# Altium footprint library PcbLibInduction.PcbLib: 27 footprints (part 2 of 2)
Each footprint in its own frame and in the unit in brackets; x right, y up, seen from the top. Pads: shape width x height; smd on the part's side, far side on the other; paste and mask are expansions set on the pad; w line width, h text height; cw(c..) or ccw(c..) is an arc to the next point about the centre after c.
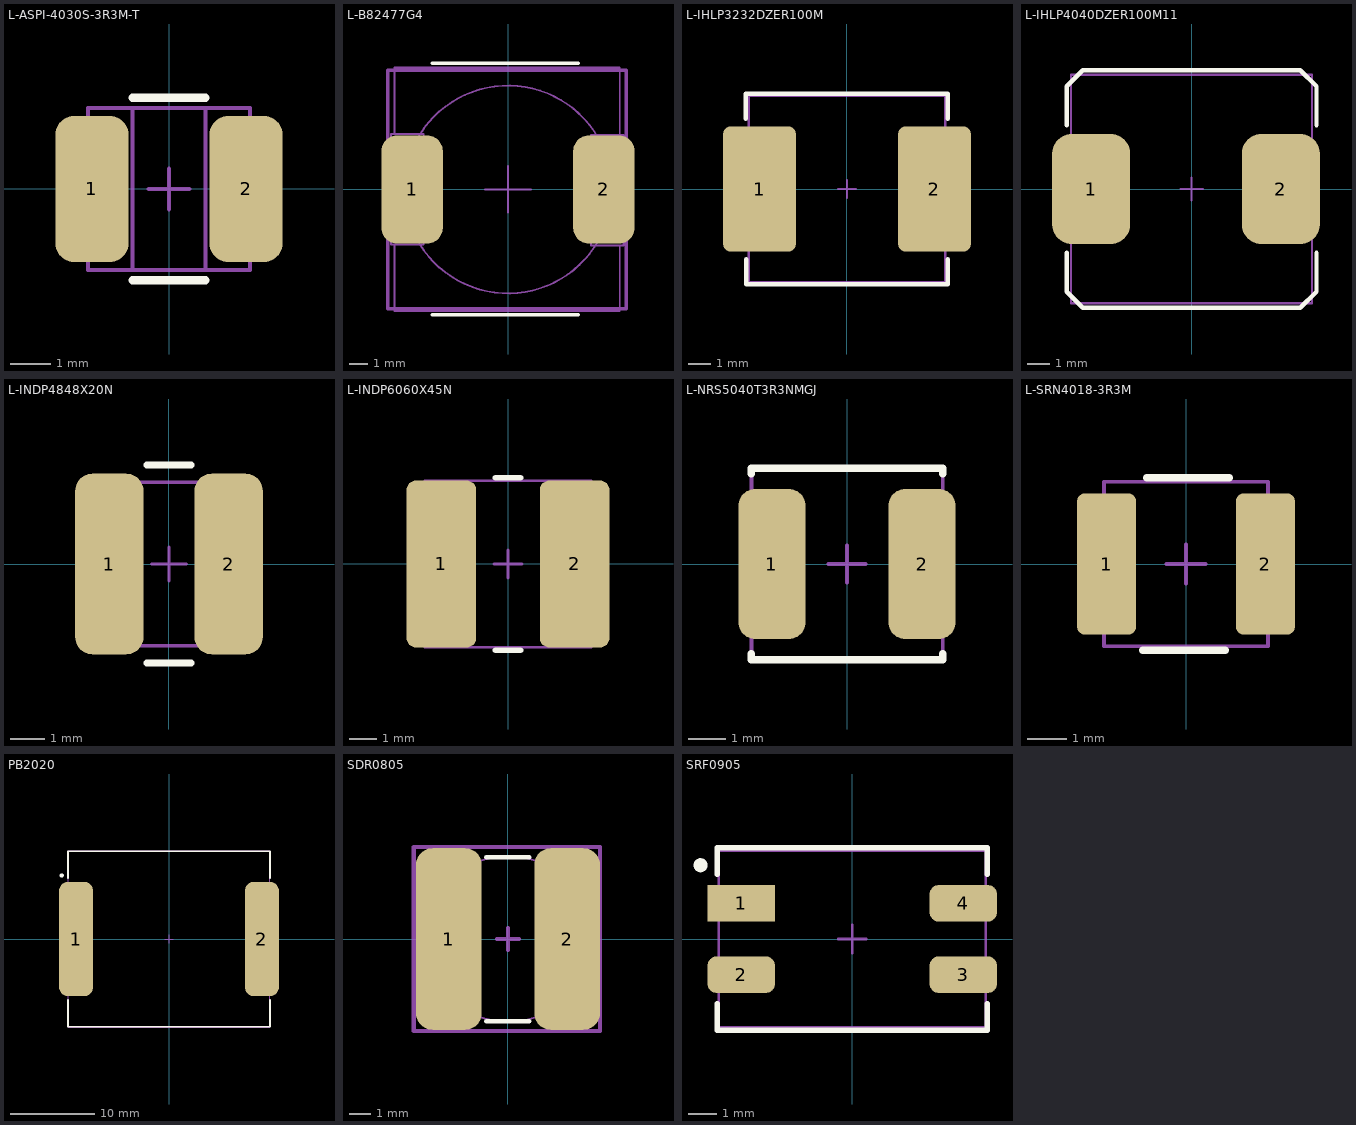
[diagram p1: the footprints below, top view; thin cyan lines are the x and y axes]

## L-ASPI-4030S-3R3M-T [mm]
height 3
pads (2):
  rrect50% 1.8x3.6 smd: 1(-1.9,0) 2(1.9,0)
Top Overlay:
  lines w0.2: -0.9,-2.25 0.9,-2.25 ; -0.9,2.25 0.9,2.25
TopAssy:
  lines w0.1: -0.9,-2 -0.9,2 ; 0.9,-2 0.9,2 ; -2,-2 2,-2 2,2 -2,2 -2,-2
Inside:
  lines w0.1: -0.5,0 0.5,0 ; 0,-0.5 0,0.5
3D body "L-ASPI-4030S-3RM3-T.STEP": height 3.05, standoff 0.05, extent -2,-2 2,2

## L-B82477G4 [mm] "12.8 mmx 12.8 mmx 8.0mm"
height 8
pads (2):
  rrect50% 3.3x5.8 smd: 1(-5.15,0) 2(5.15,0)
Top Overlay:
  lines w0.2: -4.05,-6.725 3.775,-6.725 ; -4.05,6.775 3.775,6.775
TopAssy:
  circle w0.1: c0,0 r5.575
  lines w0.1: -6.1,-6.525 6,-6.525 6,-3.05 ; -6.1,-6.45 -6.1,-2.95 ; -5.9,2.975 -6.1,2.975 -6.1,6.475 -6.1,6.55 6,6.55 6,2.95 ; -6.275,-2.95 -4.525,-2.95 -4.525,2.975 -6.275,2.975 -6.275,-2.95 ; 4.45,-3 4.45,2.925 6.2,2.925 6.2,-3 4.45,-3
Inside:
  lines w0.1: -1.25,0 0,0 ; 0,-1.25 0,0 ; 0,1.25 0,0 ; 1.25,0 0,0
  lines w0.2: -6.45,-6.4 6.35,-6.4 6.35,6.4 -6.45,6.4 -6.45,-6.4
3D body "User Library-b82477g4.step": height 8, standoff 0, extent -6.475,-6.4 6.325,6.4

## L-IHLP3232DZER100M [mm]
pads (2):
  rrect20% 3.2x5.5 smd: 1(-3.85,0) 2(3.85,0)
Top Overlay:
  lines w0.2: -4.45,3.1 -4.45,4.2 4.425,4.2 4.425,3.1 ; -4.425,-3.1 -4.425,-4.2 4.425,-4.2 4.425,-3.1
TopAssy:
  lines w0.1: -4.325,-4.1 4.325,-4.1 ; -4.325,-4.1 -4.325,4.1 4.325,4.1 4.325,-4.1 ; -4.325,-4.1 4.325,-4.1
Inside:
  lines w0.1: -0.4,0 0.4,0 ; 0,-0.4 0,0.4
3D body "IHLP3232CZ.STEP": height 2.79, standoff -0.1, extent -4.3,-4.1 4.3,4.094

## L-IHLP4040DZER100M11 [mm] "Chip Inductor, 2-Leads, Body 10.92mm x 10.30mm,  Vishay Dale"
height 4
pads (2):
  rrect50% 3.5x4.95 smd: 1(-4.5,0) 2(4,0)
Top Overlay:
  lines w0.2: -5.6,-2.85 -5.6,-4.6 -4.875,-5.325 4.875,-5.325 5.6,-4.6 5.6,-2.85 ; -5.6,2.85 -5.6,4.6 -4.875,5.325 4.875,5.325 5.6,4.6 5.6,2.85
TopAssy:
  lines w0.1: -5.4,-5.125 5.4,-5.125 5.4,5.125 -5.4,5.125 -5.4,-5.125
Inside:
  lines w0.1: -0.5,0 0.5,0 ; 0,-0.5 0,0.5
3D body "IHLP-4040DZ-11.STEP": height 4, standoff 0, extent -5.397,-5.125 5.398,5.175

## L-INDP4848X20N [mm] "Precision Wire Wound Inductor, 2-Leads, Body 4,80x4,80mm, IPC Medium Density"
height 2
pads (2):
  rrect50% 2x5.3 smd: 1(-1.75,0) 2(1.75,0)
Top Overlay:
  lines w0.2: -0.65,-2.9 0,-2.9 0.65,-2.9 ; -0.65,2.9 0,2.9 0.65,2.9
TopAssy:
  lines w0.1: -2.4,-2.4 2.4,-2.4 2.4,2.4 -2.4,2.4 -2.4,-2.4
Inside:
  lines w0.1: -0.5,0 0.5,0 ; 0,-0.5 0,0.5
3D body "srr4018.stp": height 1.8, standoff 0, extent -2.4,-2.4 2.4,2.4

## L-INDP6060X45N [mm] "Precision Wire Wound Inductor, 2-Leads, Body 6,00x6,00mm, IPC Medium Density"
height 4.5
pads (2):
  rrect25% 2.5x6 smd: 1(-2.4,0) 2(2.4,0)
Top Overlay:
  lines w0.2: -0.45,-3.1 0.45,-3.1 ; -0.45,3.1 0.45,3.1
TopAssy:
  lines w0.1: -3,-3 -3,3 3,3 3,-3 -3,-3
Inside:
  lines w0.1: -0.5,0 0.5,0 ; 0,-0.5 0,0.5
3D body "srn6045.stp": height 4.5, standoff 0, extent -3,-3 3,3

## L-NRS5040T3R3NMGJ [mm] "Precision Wire Wound Inductor, 2-Leads, Body 4,90x4,90mm, IPC Medium Density"
height 4.1
pads (2):
  rrect50% 1.8x4 smd: 1(-2,0) 2(2,0)
Top Overlay:
  lines w0.2: -2.55,-2.4 -2.55,-2.55 2.55,-2.55 2.55,-2.4 ; -2.55,2.4 -2.55,2.55 2.55,2.55 2.55,2.4
TopAssy:
  lines w0.1: -2.55,-2.55 -2.55,2.55 2.55,2.55 2.55,-2.55 -2.55,-2.55
Inside:
  lines w0.1: -0.5,0 0.5,0 ; 0,-0.5 0,0.5
3D body "L-NRS5040T3R3NMGJ.step": height 4.2, standoff 0, extent -2.55,-2.45 2.55,2.45

## L-SRN4018-3R3M [mm]
height 1.8
pads (2):
  rrect25% 1.5x3.6 smd: 1(-2.025,0) 2(2.025,0)
Top Overlay:
  lines w0.2: -1.1,-2.2 1,-2.2 ; -1,2.2 1.1,2.2
TopAssy:
  lines w0.1: -2.096,-2.098 -2.096,2.098 2.096,2.098 2.096,-2.098 -2.096,-2.098
Inside:
  lines w0.1: -0.5,0 0.5,0 ; 0,-0.5 0,0.5
3D body "IND_BOURNS_SRN4018.stp": height 1.8, standoff 0, extent -2.096,-2.098 2.096,2.098

## PB2020 [mm] "Inductor, 2-Leads, Body 23,87x20,83mm"
height 10.16
pads (2):
  rrect50% 4x13.5 smd: 1(-11,0) 2(11,0)
Top Overlay:
  circle w0.25: c-12.7,7.525 r0.125
  lines w0.2: -11.95,-7.225 -11.95,-10.4 11.95,-10.4 11.95,-7.225 ; -11.95,7.225 -11.95,10.4 11.95,10.4 11.95,7.225
TopAssy:
  lines w0.1: -11.935,-10.415 -11.935,10.415 11.935,10.415 11.935,-10.415 -11.935,-10.415
Inside:
  lines w0.1: -0.5,0 0.5,0 ; 0,-0.5 0,0.5
3D body "PB2020.223NLTcolor.STEP": height 10.16, standoff -0.03, extent -12.116,-10.415 12.117,10.415

## SDR0805 [mm]
pads (2):
  rrect50% 3x8.3 smd: 1(-2.7,0) 2(2.7,0)
Top Overlay:
  lines w0.2: -1,-3.75 0.975,-3.75 ; -1,3.725 0.975,3.725
TopAssy:
  circle w0.1: c0,0 r3.787
  lines w0.1: -1.45,-3.55 -1.45,3.475 ; 1.45,-3.425 1.45,3.45
Inside:
  lines w0.2: -0.5,0 0.5,0 ; 0,-0.5 0,0.5 ; -4.3,-4.2 4.2,-4.2 4.2,4.2 -4.3,4.2 -4.3,4 -4.3,-4.2
3D body "69583.stp": height 5.3, standoff 0, extent -3.925,-3.925 3.875,3.875

## SRF0905 [mm] "DFN, 4-Leads, Body 6,00x9,20mm"
height 5.3
pads (4):
  rect 2.4x1.3 smd: 1(-3.95,1.27)
  rrect50% 2.4x1.3 smd: 2(-3.95,-1.27) 3(3.95,-1.27) 4(3.95,1.27)
Top Overlay:
  circle w0.25: c-5.4,2.625 r0.125
  lines w0.2: -4.8,-2.3 -4.8,-3.25 -4.75,-3.25 4.75,-3.25 4.8,-3.25 4.8,-2.3 ; -4.8,2.3 -4.8,3.25 -4.75,3.25 4.75,3.25 4.8,3.25 4.8,2.3
TopAssy:
  lines w0.1: -4.75,-3.15 4.75,-3.15 4.75,3.15 -4.75,3.15 -4.75,-3.15
Inside:
  lines w0.1: -0.5,0 0.5,0 ; 0,-0.5 0,0.5
3D body "srf0905.stp": height 4.76, standoff -0.04, extent -4.6,-3 4.601,3